# Altium integrated library Capacitor - Aluminium TH.IntLib: 4591 symbols (part 30 of 68)
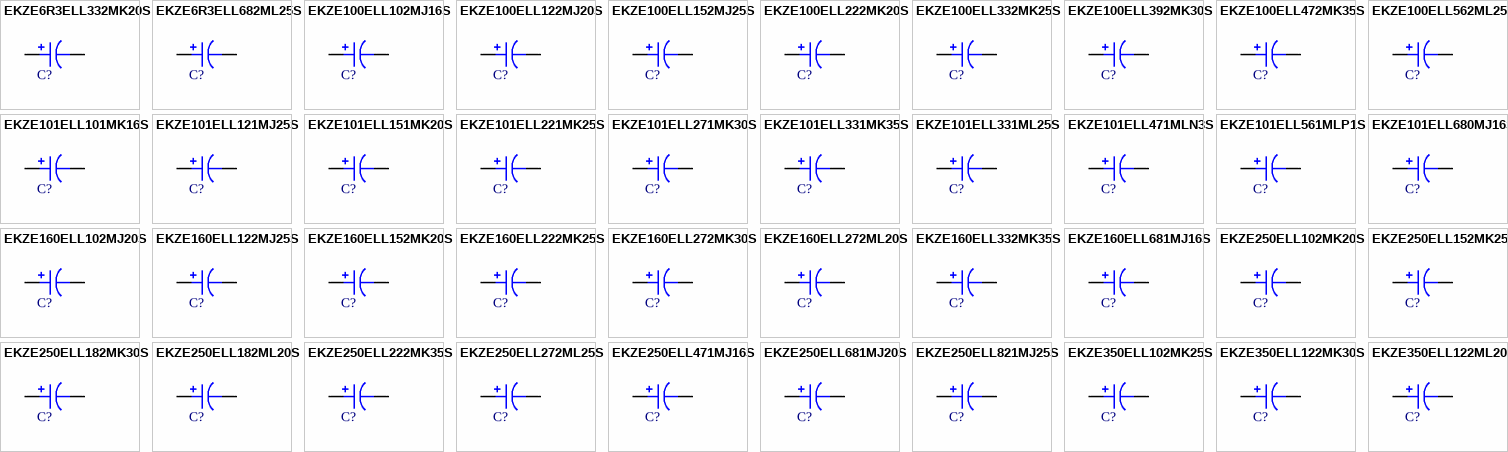
[diagram p143: symbols EKZE6R3ELL332MK20S to EKZE350ELL122ML20S]

## EKZE250ELL272ML25S
designator C?, comment 2700uF  (value not drawn)
CAP ALUM 2700UF 20% 25V RADIAL; Part Number: EKZE250ELL272ML25S; Manufacturer: United Chemi-Con; TemperatureRange: -40C ~ 105C; Type: Polar; Ripple Current: 2.595A @ 120Hz; Impedance: 16 mOhm; Value: 2700uF; PartId: 26657; Supplier 1: Digi-Key; Supplier Part Number 1: 565-1686-ND; ComponentLink1Description: Datasheet; ComponentLink1URL: http://www.chemi-con.co.jp/cgi-bin/CAT_DB/SEARCH/cat_db_al.cgi?e=e&j=p&pdfname=kze; ComponentLink2Description: Digi-Key Listing; ComponentLink2URL: https://www.digikey.com/product-detail/en/united-chemi-con/EKZE250ELL272ML25S/565-1686-ND/756202; Tolerance: 20%; Voltage: 25V; Price: 1.6; Device Package: Radial, Can, 16mm
footprint CAP AL TH D16 L7.5 H26.5
pins: 1, 2

## EKZE250ELL471MJ16S
designator C?, comment 470uF  (value not drawn)
CAP ALUM 470UF 20% 25V RADIAL; Part Number: EKZE250ELL471MJ16S; Manufacturer: United Chemi-Con; TemperatureRange: -40C ~ 105C; Type: Polar; Ripple Current: 715mA @ 120Hz; Impedance: 38 mOhm; Value: 470uF; PartId: 25344; Supplier 1: Digi-Key; Supplier Part Number 1: 565-1677-ND; ComponentLink1Description: Datasheet; ComponentLink1URL: http://www.chemi-con.co.jp/cgi-bin/CAT_DB/SEARCH/cat_db_al.cgi?e=e&j=p&pdfname=kze; ComponentLink2Description: Digi-Key Listing; ComponentLink2URL: https://www.digikey.com/product-detail/en/united-chemi-con/EKZE250ELL471MJ16S/565-1677-ND/756193; Tolerance: 20%; Voltage: 25V; Price: 0.68; Device Package: Radial, Can, 10mm
footprint CAP AL TH D10 L5 H17.5
pins: 1, 2

## EKZE250ELL681MJ20S
designator C?, comment 680uF  (value not drawn)
CAP ALUM 680UF 20% 25V RADIAL; Part Number: EKZE250ELL681MJ20S; Manufacturer: United Chemi-Con; TemperatureRange: -40C ~ 105C; Type: Polar; Ripple Current: 1.092A @ 120Hz; Impedance: 23 mOhm; Value: 680uF; PartId: 25550; Supplier 1: Digi-Key; Supplier Part Number 1: 565-1679-ND; ComponentLink1Description: Datasheet; ComponentLink1URL: http://www.chemi-con.co.jp/cgi-bin/CAT_DB/SEARCH/cat_db_al.cgi?e=e&j=p&pdfname=kze; ComponentLink2Description: Digi-Key Listing; ComponentLink2URL: https://www.digikey.com/product-detail/en/united-chemi-con/EKZE250ELL681MJ20S/565-1679-ND/756195; Tolerance: 20%; Voltage: 25V; Price: 0.63; Device Package: Radial, Can, 10mm
footprint CAP AL TH D10 L5 H22
pins: 1, 2

## EKZE250ELL821MJ25S
designator C?, comment 820uF  (value not drawn)
CAP ALUM 820UF 20% 25V RADIAL; Part Number: EKZE250ELL821MJ25S; Manufacturer: United Chemi-Con; TemperatureRange: -40C ~ 105C; Type: Polar; Ripple Current: 1.29A @ 120Hz; Impedance: 22 mOhm; Value: 820uF; PartId: 26115; Supplier 1: Digi-Key; Supplier Part Number 1: 565-1680-ND; ComponentLink1Description: Datasheet; ComponentLink1URL: http://www.chemi-con.co.jp/cgi-bin/CAT_DB/SEARCH/cat_db_al.cgi?e=e&j=p&pdfname=kze; ComponentLink2Description: Digi-Key Listing; ComponentLink2URL: https://www.digikey.com/product-detail/en/united-chemi-con/EKZE250ELL821MJ25S/565-1680-ND/756196; Tolerance: 20%; Voltage: 25V; Price: 0.77; Device Package: Radial, Can, 10mm
footprint CAP AL TH D10 L5 H30
pins: 1, 2

## EKZE350ELL102MK25S
designator C?, comment 1000uF  (value not drawn)
CAP ALUM 1000UF 20% 35V RADIAL; Part Number: EKZE350ELL102MK25S; Manufacturer: United Chemi-Con; TemperatureRange: -40C ~ 105C; Type: Polar; Ripple Current: 1.662A @ 120Hz; Impedance: 18 mOhm; Value: 1000uF; PartId: 23587; Supplier 1: Digi-Key; Supplier Part Number 1: 565-1697-ND; ComponentLink1Description: Datasheet; ComponentLink1URL: http://www.chemi-con.co.jp/cgi-bin/CAT_DB/SEARCH/cat_db_al.cgi?e=e&j=p&pdfname=kze; ComponentLink2Description: Digi-Key Listing; ComponentLink2URL: https://www.digikey.com/product-detail/en/united-chemi-con/EKZE350ELL102MK25S/565-1697-ND/756213; Tolerance: 20%; Voltage: 35V; Price: 1.01; Device Package: Radial, Can, 12.5mm
footprint CAP AL TH D12.5 L5 H25
pins: 1, 2

## EKZE350ELL122MK30S
designator C?, comment 1200uF  (value not drawn)
CAP ALUM 1200UF 20% 35V RADIAL; Part Number: EKZE350ELL122MK30S; Manufacturer: United Chemi-Con; TemperatureRange: -40C ~ 105C; Type: Polar; Ripple Current: 1.974A @ 120Hz; Impedance: 16 mOhm; Value: 1200uF; PartId: 24285; Supplier 1: Digi-Key; Supplier Part Number 1: 565-1698-ND; ComponentLink1Description: Datasheet; ComponentLink1URL: http://www.chemi-con.co.jp/cgi-bin/CAT_DB/SEARCH/cat_db_al.cgi?e=e&j=p&pdfname=kze; ComponentLink2Description: Digi-Key Listing; ComponentLink2URL: https://www.digikey.com/product-detail/en/united-chemi-con/EKZE350ELL122MK30S/565-1698-ND/756214; Tolerance: 20%; Voltage: 35V; Price: 1.11; Device Package: Radial, Can, 12.5mm
footprint CAP AL TH D12.5 L5 H35.5
pins: 1, 2

## EKZE350ELL122ML20S
designator C?, comment 1200uF  (value not drawn)
CAP ALUM 1200UF 20% 35V RADIAL; Part Number: EKZE350ELL122ML20S; Manufacturer: United Chemi-Con; TemperatureRange: -40C ~ 105C; Type: Polar; Ripple Current: 1.884A @ 120Hz; Impedance: 18 mOhm; Value: 1200uF; PartId: 26328; Supplier 1: Digi-Key; Supplier Part Number 1: 565-1699-ND; ComponentLink1Description: Datasheet; ComponentLink1URL: http://www.chemi-con.co.jp/cgi-bin/CAT_DB/SEARCH/cat_db_al.cgi?e=e&j=p&pdfname=kze; ComponentLink2Description: Digi-Key Listing; ComponentLink2URL: https://www.digikey.com/product-detail/en/united-chemi-con/EKZE350ELL122ML20S/565-1699-ND/756215; Tolerance: 20%; Voltage: 35V; Price: 1.36; Device Package: Radial, Can, 16mm
footprint CAP AL TH D16 L7.5 H20
pins: 1, 2

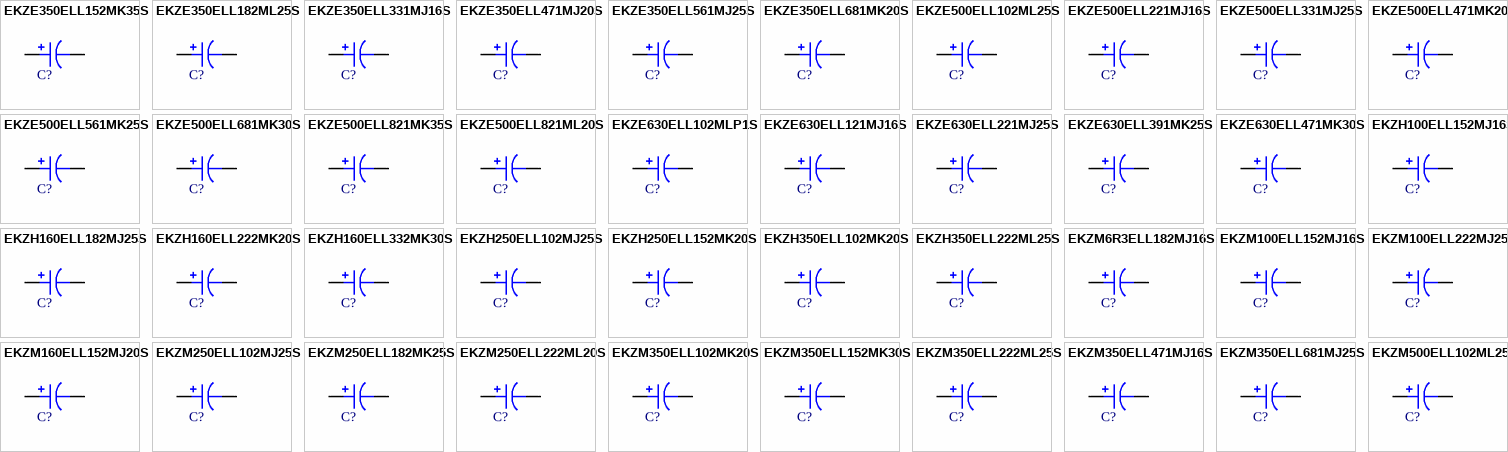
[diagram p48: symbols EKZE350ELL152MK35S to EKZM500ELL102ML25S]

## EKZE350ELL152MK35S
designator C?, comment 1500uF  (value not drawn)
CAP ALUM 1500UF 20% 35V RADIAL; Part Number: EKZE350ELL152MK35S; Manufacturer: United Chemi-Con; TemperatureRange: -40C ~ 105C; Type: Polar; Ripple Current: 2.04A @ 120Hz; Impedance: 15 mOhm; Value: 1500uF; PartId: 24325; Supplier 1: Digi-Key; Supplier Part Number 1: 565-1700-ND; ComponentLink1Description: Datasheet; ComponentLink1URL: http://www.chemi-con.co.jp/cgi-bin/CAT_DB/SEARCH/cat_db_al.cgi?e=e&j=p&pdfname=kze; ComponentLink2Description: Digi-Key Listing; ComponentLink2URL: https://www.digikey.com/product-detail/en/united-chemi-con/EKZE350ELL152MK35S/565-1700-ND/756216; Tolerance: 20%; Voltage: 35V; Price: 1.28; Device Package: Radial, Can, 12.5mm
footprint CAP AL TH D12.5 L5 H35.5
pins: 1, 2

## EKZE350ELL182ML25S
designator C?, comment 1800uF  (value not drawn)
CAP ALUM 1800UF 20% 35V RADIAL; Part Number: EKZE350ELL182ML25S; Manufacturer: United Chemi-Con; TemperatureRange: -40C ~ 105C; Type: Polar; Ripple Current: 2.076A @ 120Hz; Impedance: 16 mOhm; Value: 1800uF; PartId: 26662; Supplier 1: Digi-Key; Supplier Part Number 1: 565-1701-ND; ComponentLink1Description: Datasheet; ComponentLink1URL: http://www.chemi-con.co.jp/cgi-bin/CAT_DB/SEARCH/cat_db_al.cgi?e=e&j=p&pdfname=kze; ComponentLink2Description: Digi-Key Listing; ComponentLink2URL: https://www.digikey.com/product-detail/en/united-chemi-con/EKZE350ELL182ML25S/565-1701-ND/756217; Tolerance: 20%; Voltage: 35V; Price: 1.63; Device Package: Radial, Can, 16mm
footprint CAP AL TH D16 L7.5 H26.5
pins: 1, 2

## EKZE350ELL331MJ16S
designator C?, comment 330uF  (value not drawn)
CAP ALUM 330UF 20% 35V RADIAL; Part Number: EKZE350ELL331MJ16S; Manufacturer: United Chemi-Con; TemperatureRange: -40C ~ 105C; Type: Polar; Ripple Current: 715mA @ 120Hz; Impedance: 38 mOhm; Value: 330uF; PartId: 25355; Supplier 1: Digi-Key; Supplier Part Number 1: 565-1693-ND; ComponentLink1Description: Datasheet; ComponentLink1URL: http://www.chemi-con.co.jp/cgi-bin/CAT_DB/SEARCH/cat_db_al.cgi?e=e&j=p&pdfname=kze; ComponentLink2Description: Digi-Key Listing; ComponentLink2URL: https://www.digikey.com/product-detail/en/united-chemi-con/EKZE350ELL331MJ16S/565-1693-ND/756209; Tolerance: 20%; Voltage: 35V; Price: 0.7; Device Package: Radial, Can, 10mm
footprint CAP AL TH D10 L5 H17.5
pins: 1, 2

## EKZE350ELL471MJ20S
designator C?, comment 470uF  (value not drawn)
CAP ALUM 470UF 20% 35V RADIAL; Part Number: EKZE350ELL471MJ20S; Manufacturer: United Chemi-Con; TemperatureRange: -40C ~ 105C; Type: Polar; Ripple Current: 910mA @ 120Hz; Impedance: 23 mOhm; Value: 470uF; PartId: 25544; Supplier 1: Digi-Key; Supplier Part Number 1: 565-1694-ND; ComponentLink1Description: Datasheet; ComponentLink1URL: http://www.chemi-con.co.jp/cgi-bin/CAT_DB/SEARCH/cat_db_al.cgi?e=e&j=p&pdfname=kze; ComponentLink2Description: Digi-Key Listing; ComponentLink2URL: https://www.digikey.com/product-detail/en/united-chemi-con/EKZE350ELL471MJ20S/565-1694-ND/756210; Tolerance: 20%; Voltage: 35V; Price: 0.63; Device Package: Radial, Can, 10mm
footprint CAP AL TH D10 L5 H22
pins: 1, 2

## EKZE350ELL561MJ25S
designator C?, comment 560uF  (value not drawn)
CAP ALUM 560UF 20% 35V RADIAL; Part Number: EKZE350ELL561MJ25S; Manufacturer: United Chemi-Con; TemperatureRange: -40C ~ 105C; Type: Polar; Ripple Current: 1.075A @ 120Hz; Impedance: 22 mOhm; Value: 560uF; PartId: 26110; Supplier 1: Digi-Key; Supplier Part Number 1: 565-1695-ND; ComponentLink1Description: Datasheet; ComponentLink1URL: http://www.chemi-con.co.jp/cgi-bin/CAT_DB/SEARCH/cat_db_al.cgi?e=e&j=p&pdfname=kze; ComponentLink2Description: Digi-Key Listing; ComponentLink2URL: https://www.digikey.com/product-detail/en/united-chemi-con/EKZE350ELL561MJ25S/565-1695-ND/756211; Tolerance: 20%; Voltage: 35V; Price: 0.77; Device Package: Radial, Can, 10mm
footprint CAP AL TH D10 L5 H30
pins: 1, 2

## EKZE350ELL681MK20S
designator C?, comment 680uF  (value not drawn)
CAP ALUM 680UF 20% 35V RADIAL; Part Number: EKZE350ELL681MK20S; Manufacturer: United Chemi-Con; TemperatureRange: -40C ~ 105C; Type: Polar; Ripple Current: 1.416A @ 120Hz; Impedance: 21 mOhm; Value: 680uF; PartId: 22926; Supplier 1: Digi-Key; Supplier Part Number 1: 565-1696-ND; ComponentLink1Description: Datasheet; ComponentLink1URL: http://www.chemi-con.co.jp/cgi-bin/CAT_DB/SEARCH/cat_db_al.cgi?e=e&j=p&pdfname=kze; ComponentLink2Description: Digi-Key Listing; ComponentLink2URL: https://www.digikey.com/product-detail/en/united-chemi-con/EKZE350ELL681MK20S/565-1696-ND/756212; Tolerance: 20%; Voltage: 35V; Price: 0; Device Package: Radial, Can, 12.5mm
footprint CAP AL TH D12.5 L5 H20
pins: 1, 2

## EKZE500ELL102ML25S
designator C?, comment 1000uF  (value not drawn)
CAP ALUM 1000UF 20% 50V RADIAL; Part Number: EKZE500ELL102ML25S; Manufacturer: United Chemi-Con; TemperatureRange: -40C ~ 105C; Type: Polar; Ripple Current: 1.806A @ 120Hz; Impedance: 21 mOhm; Value: 1000uF; PartId: 26669; Supplier 1: Digi-Key; Supplier Part Number 1: 565-1717-ND; ComponentLink1Description: Datasheet; ComponentLink1URL: http://www.chemi-con.co.jp/cgi-bin/CAT_DB/SEARCH/cat_db_al.cgi?e=e&j=p&pdfname=kze; ComponentLink2Description: Digi-Key Listing; ComponentLink2URL: https://www.digikey.com/product-detail/en/united-chemi-con/EKZE500ELL102ML25S/565-1717-ND/756233; Tolerance: 20%; Voltage: 50V; Price: 1.66; Device Package: Radial, Can, 16mm
footprint CAP AL TH D16 L7.5 H26.5
pins: 1, 2

## EKZE500ELL221MJ16S
designator C?, comment 220uF  (value not drawn)
CAP ALUM 220UF 20% 50V RADIAL; Part Number: EKZE500ELL221MJ16S; Manufacturer: United Chemi-Con; TemperatureRange: -40C ~ 105C; Type: Polar; Ripple Current: 685mA @ 120Hz; Impedance: 42 mOhm; Value: 220uF; PartId: 25361; Supplier 1: Digi-Key; Supplier Part Number 1: 565-1709-ND; ComponentLink1Description: Datasheet; ComponentLink1URL: http://www.chemi-con.co.jp/cgi-bin/CAT_DB/SEARCH/cat_db_al.cgi?e=e&j=p&pdfname=kze; ComponentLink2Description: Digi-Key Listing; ComponentLink2URL: https://www.digikey.com/product-detail/en/united-chemi-con/EKZE500ELL221MJ16S/565-1709-ND/756225; Tolerance: 20%; Voltage: 50V; Price: 0.71; Device Package: Radial, Can, 10mm
footprint CAP AL TH D10 L5 H17.5
pins: 1, 2

## EKZE500ELL331MJ25S
designator C?, comment 330uF  (value not drawn)
CAP ALUM 330UF 20% 50V RADIAL; Part Number: EKZE500ELL331MJ25S; Manufacturer: United Chemi-Con; TemperatureRange: -40C ~ 105C; Type: Polar; Ripple Current: 935mA @ 120Hz; Impedance: 28 mOhm; Value: 330uF; PartId: 26119; Supplier 1: Digi-Key; Supplier Part Number 1: 565-1711-ND; ComponentLink1Description: Datasheet; ComponentLink1URL: http://www.chemi-con.co.jp/cgi-bin/CAT_DB/SEARCH/cat_db_al.cgi?e=e&j=p&pdfname=kze; ComponentLink2Description: Digi-Key Listing; ComponentLink2URL: https://www.digikey.com/product-detail/en/united-chemi-con/EKZE500ELL331MJ25S/565-1711-ND/756227; Tolerance: 20%; Voltage: 50V; Price: 0.78; Device Package: Radial, Can, 10mm
footprint CAP AL TH D10 L5 H30
pins: 1, 2

## EKZE500ELL471MK20S
designator C?, comment 470uF  (value not drawn)
CAP ALUM 470UF 20% 50V RADIAL; Part Number: EKZE500ELL471MK20S; Manufacturer: United Chemi-Con; TemperatureRange: -40C ~ 105C; Type: Polar; Ripple Current: 1.025A @ 120Hz; Impedance: 27 mOhm; Value: 470uF; PartId: 22930; Supplier 1: Digi-Key; Supplier Part Number 1: 565-1712-ND; ComponentLink1Description: Datasheet; ComponentLink1URL: http://www.chemi-con.co.jp/cgi-bin/CAT_DB/SEARCH/cat_db_al.cgi?e=e&j=p&pdfname=kze; ComponentLink2Description: Digi-Key Listing; ComponentLink2URL: https://www.digikey.com/product-detail/en/united-chemi-con/EKZE500ELL471MK20S/565-1712-ND/756228; Tolerance: 20%; Voltage: 50V; Price: 0; Device Package: Radial, Can, 12.5mm
footprint CAP AL TH D12.5 L5 H20
pins: 1, 2

## EKZE500ELL561MK25S
designator C?, comment 560uF  (value not drawn)
CAP ALUM 560UF 20% 50V RADIAL; Part Number: EKZE500ELL561MK25S; Manufacturer: United Chemi-Con; TemperatureRange: -40C ~ 105C; Type: Polar; Ripple Current: 1.205A @ 120Hz; Impedance: 23 mOhm; Value: 560uF; PartId: 23593; Supplier 1: Digi-Key; Supplier Part Number 1: 565-1713-ND; ComponentLink1Description: Datasheet; ComponentLink1URL: http://www.chemi-con.co.jp/cgi-bin/CAT_DB/SEARCH/cat_db_al.cgi?e=e&j=p&pdfname=kze; ComponentLink2Description: Digi-Key Listing; ComponentLink2URL: https://www.digikey.com/product-detail/en/united-chemi-con/EKZE500ELL561MK25S/565-1713-ND/756229; Tolerance: 20%; Voltage: 50V; Price: 1.03; Device Package: Radial, Can, 12.5mm
footprint CAP AL TH D12.5 L5 H25
pins: 1, 2

## EKZE500ELL681MK30S
designator C?, comment 680uF  (value not drawn)
CAP ALUM 680UF 20% 50V RADIAL; Part Number: EKZE500ELL681MK30S; Manufacturer: United Chemi-Con; TemperatureRange: -40C ~ 105C; Type: Polar; Ripple Current: 1.716A @ 120Hz; Impedance: 21 mOhm; Value: 680uF; PartId: 24294; Supplier 1: Digi-Key; Supplier Part Number 1: 565-1714-ND; ComponentLink1Description: Datasheet; ComponentLink1URL: http://www.chemi-con.co.jp/cgi-bin/CAT_DB/SEARCH/cat_db_al.cgi?e=e&j=p&pdfname=kze; ComponentLink2Description: Digi-Key Listing; ComponentLink2URL: https://www.digikey.com/product-detail/en/united-chemi-con/EKZE500ELL681MK30S/565-1714-ND/756230; Tolerance: 20%; Voltage: 50V; Price: 1.14; Device Package: Radial, Can, 12.5mm
footprint CAP AL TH D12.5 L5 H35.5
pins: 1, 2

## EKZE500ELL821MK35S
designator C?, comment 820uF  (value not drawn)
CAP ALUM 820UF 20% 50V RADIAL; Part Number: EKZE500ELL821MK35S; Manufacturer: United Chemi-Con; TemperatureRange: -40C ~ 105C; Type: Polar; Ripple Current: 1.776A @ 120Hz; Impedance: 19 mOhm; Value: 820uF; PartId: 24326; Supplier 1: Digi-Key; Supplier Part Number 1: 565-1715-ND; ComponentLink1Description: Datasheet; ComponentLink1URL: http://www.chemi-con.co.jp/cgi-bin/CAT_DB/SEARCH/cat_db_al.cgi?e=e&j=p&pdfname=kze; ComponentLink2Description: Digi-Key Listing; ComponentLink2URL: https://www.digikey.com/product-detail/en/united-chemi-con/EKZE500ELL821MK35S/565-1715-ND/756231; Tolerance: 20%; Voltage: 50V; Price: 1.28; Device Package: Radial, Can, 12.5mm
footprint CAP AL TH D12.5 L5 H35.5
pins: 1, 2

## EKZE500ELL821ML20S
designator C?, comment 820uF  (value not drawn)
CAP ALUM 820UF 20% 50V RADIAL; Part Number: EKZE500ELL821ML20S; Manufacturer: United Chemi-Con; TemperatureRange: -40C ~ 105C; Type: Polar; Ripple Current: 1.638A @ 120Hz; Impedance: 23 mOhm; Value: 820uF; PartId: 26335; Supplier 1: Digi-Key; Supplier Part Number 1: 565-1716-ND; ComponentLink1Description: Datasheet; ComponentLink1URL: http://www.chemi-con.co.jp/cgi-bin/CAT_DB/SEARCH/cat_db_al.cgi?e=e&j=p&pdfname=kze; ComponentLink2Description: Digi-Key Listing; ComponentLink2URL: https://www.digikey.com/product-detail/en/united-chemi-con/EKZE500ELL821ML20S/565-1716-ND/756232; Tolerance: 20%; Voltage: 50V; Price: 1.47; Device Package: Radial, Can, 16mm
footprint CAP AL TH D16 L7.5 H20
pins: 1, 2

## EKZE630ELL102MLP1S
designator C?, comment 1000uF  (value not drawn)
CAP ALUM 1000UF 20% 63V RADIAL; Part Number: EKZE630ELL102MLP1S; Manufacturer: United Chemi-Con; TemperatureRange: -40C ~ 105C; Type: Polar; Ripple Current: 1.74A @ 120Hz; Impedance: 19 mOhm; Value: 1000uF; PartId: 27394; Supplier 1: Digi-Key; Supplier Part Number 1: 565-1729-ND; ComponentLink1Description: Datasheet; ComponentLink1URL: http://www.chemi-con.co.jp/cgi-bin/CAT_DB/SEARCH/cat_db_al.cgi?e=e&j=p&pdfname=kze; ComponentLink2Description: Digi-Key Listing; ComponentLink2URL: https://www.digikey.com/product-detail/en/united-chemi-con/EKZE630ELL102MLP1S/565-1729-ND/756245; Tolerance: 20%; Voltage: 63V; Price: 1.98; Device Package: Radial, Can, 16mm
footprint CAP AL TH D16 L7.5 H37
pins: 1, 2

## EKZE630ELL121MJ16S
designator C?, comment 120uF  (value not drawn)
CAP ALUM 120UF 20% 63V RADIAL; Part Number: EKZE630ELL121MJ16S; Manufacturer: United Chemi-Con; TemperatureRange: -40C ~ 105C; Type: Polar; Ripple Current: 380mA @ 120Hz; Impedance: 76 mOhm; Value: 120uF; PartId: 25358; Supplier 1: Digi-Key; Supplier Part Number 1: 565-1723-ND; ComponentLink1Description: Datasheet; ComponentLink1URL: http://www.chemi-con.co.jp/cgi-bin/CAT_DB/SEARCH/cat_db_al.cgi?e=e&j=p&pdfname=kze; ComponentLink2Description: Digi-Key Listing; ComponentLink2URL: https://www.digikey.com/product-detail/en/united-chemi-con/EKZE630ELL121MJ16S/565-1723-ND/756239; Tolerance: 20%; Voltage: 63V; Price: 0.7; Device Package: Radial, Can, 10mm
footprint CAP AL TH D10 L5 H17.5
pins: 1, 2

## EKZE630ELL221MJ25S
designator C?, comment 220uF  (value not drawn)
CAP ALUM 220UF 20% 63V RADIAL; Part Number: EKZE630ELL221MJ25S; Manufacturer: United Chemi-Con; TemperatureRange: -40C ~ 105C; Type: Polar; Ripple Current: 675mA @ 120Hz; Impedance: 46 mOhm; Value: 220uF; PartId: 26132; Supplier 1: Digi-Key; Supplier Part Number 1: 565-1725-ND; ComponentLink1Description: Datasheet; ComponentLink1URL: http://www.chemi-con.co.jp/cgi-bin/CAT_DB/SEARCH/cat_db_al.cgi?e=e&j=p&pdfname=kze; ComponentLink2Description: Digi-Key Listing; ComponentLink2URL: https://www.digikey.com/product-detail/en/united-chemi-con/EKZE630ELL221MJ25S/565-1725-ND/756241; Tolerance: 20%; Voltage: 63V; Price: 0.81; Device Package: Radial, Can, 10mm
footprint CAP AL TH D10 L5 H30
pins: 1, 2

## EKZE630ELL391MK25S
designator C?, comment 390uF  (value not drawn)
CAP ALUM 390UF 20% 63V RADIAL; Part Number: EKZE630ELL391MK25S; Manufacturer: United Chemi-Con; TemperatureRange: -40C ~ 105C; Type: Polar; Ripple Current: 950mA @ 120Hz; Impedance: 31 mOhm; Value: 390uF; PartId: 23586; Supplier 1: Digi-Key; Supplier Part Number 1: 565-1726-ND; ComponentLink1Description: Datasheet; ComponentLink1URL: http://www.chemi-con.co.jp/cgi-bin/CAT_DB/SEARCH/cat_db_al.cgi?e=e&j=p&pdfname=kze; ComponentLink2Description: Digi-Key Listing; ComponentLink2URL: https://www.digikey.com/product-detail/en/united-chemi-con/EKZE630ELL391MK25S/565-1726-ND/756242; Tolerance: 20%; Voltage: 63V; Price: 1.01; Device Package: Radial, Can, 12.5mm
footprint CAP AL TH D12.5 L5 H25
pins: 1, 2

## EKZE630ELL471MK30S
designator C?, comment 470uF  (value not drawn)
CAP ALUM 470UF 20% 63V RADIAL; Part Number: EKZE630ELL471MK30S; Manufacturer: United Chemi-Con; TemperatureRange: -40C ~ 105C; Type: Polar; Ripple Current: 1.15A @ 120Hz; Impedance: 28 mOhm; Value: 470uF; PartId: 24292; Supplier 1: Digi-Key; Supplier Part Number 1: 565-1727-ND; ComponentLink1Description: Datasheet; ComponentLink1URL: http://www.chemi-con.co.jp/cgi-bin/CAT_DB/SEARCH/cat_db_al.cgi?e=e&j=p&pdfname=kze; ComponentLink2Description: Digi-Key Listing; ComponentLink2URL: https://www.digikey.com/product-detail/en/united-chemi-con/EKZE630ELL471MK30S/565-1727-ND/756243; Tolerance: 20%; Voltage: 63V; Price: 1.13; Device Package: Radial, Can, 12.5mm
footprint CAP AL TH D12.5 L5 H35.5
pins: 1, 2

## EKZH100ELL152MJ16S
designator C?, comment 1500uF  (value not drawn)
CAP ALUM 1500UF 20% 10V RADIAL; Part Number: EKZH100ELL152MJ16S; Manufacturer: United Chemi-Con; TemperatureRange: -40C ~ 105C; Type: Polar; Ripple Current: 990mA @ 120Hz; Impedance: 32 mOhm; Value: 1500uF; PartId: 25357; Supplier 1: Digi-Key; Supplier Part Number 1: 565-3546-ND; ComponentLink1Description: Datasheet; ComponentLink1URL: http://www.chemi-con.co.jp/cgi-bin/CAT_DB/SEARCH/cat_db_al.cgi?e=e&j=p&pdfname=kzh; ComponentLink2Description: Digi-Key Listing; ComponentLink2URL: https://www.digikey.com/product-detail/en/united-chemi-con/EKZH100ELL152MJ16S/565-3546-ND/3529140; Tolerance: 20%; Voltage: 10V; Price: 0.7; Device Package: Radial, Can, 10mm
footprint CAP AL TH D10 L5 H17.5
pins: 1, 2

## EKZH160ELL182MJ25S
designator C?, comment 1800uF  (value not drawn)
CAP ALUM 1800UF 20% 16V RADIAL; Part Number: EKZH160ELL182MJ25S; Manufacturer: United Chemi-Con; TemperatureRange: -40C ~ 105C; Type: Polar; Ripple Current: 1.35A @ 120Hz; Impedance: 18 mOhm; Value: 1800uF; PartId: 26166; Supplier 1: Digi-Key; Supplier Part Number 1: 565-3550-ND; ComponentLink1Description: Datasheet; ComponentLink1URL: http://www.chemi-con.co.jp/cgi-bin/CAT_DB/SEARCH/cat_db_al.cgi?e=e&j=p&pdfname=kzh; ComponentLink2Description: Digi-Key Listing; ComponentLink2URL: https://www.digikey.com/product-detail/en/united-chemi-con/EKZH160ELL182MJ25S/565-3550-ND/3529145; Tolerance: 20%; Voltage: 16V; Price: 0.88; Device Package: Radial, Can, 10mm
footprint CAP AL TH D10 L5 H30
pins: 1, 2

## EKZH160ELL222MK20S
designator C?, comment 2200uF  (value not drawn)
CAP ALUM 2200UF 20% 16V RADIAL; Part Number: EKZH160ELL222MK20S; Manufacturer: United Chemi-Con; TemperatureRange: -40C ~ 105C; Type: Polar; Ripple Current: 1.86A @ 120Hz; Impedance: 17 mOhm; Value: 2200uF; PartId: 23028; Supplier 1: Digi-Key; Supplier Part Number 1: 565-3551-ND; ComponentLink1Description: Datasheet; ComponentLink1URL: http://www.chemi-con.co.jp/cgi-bin/CAT_DB/SEARCH/cat_db_al.cgi?e=e&j=p&pdfname=kzh; ComponentLink2Description: Digi-Key Listing; ComponentLink2URL: https://www.digikey.com/product-detail/en/united-chemi-con/EKZH160ELL222MK20S/565-3551-ND/3529149; Tolerance: 20%; Voltage: 16V; Price: 0; Device Package: Radial, Can, 12.5mm
footprint CAP AL TH D12.5 L5 H21.5
pins: 1, 2

## EKZH160ELL332MK30S
designator C?, comment 3300uF  (value not drawn)
CAP ALUM 3300UF 20% 16V RADIAL; Part Number: EKZH160ELL332MK30S; Manufacturer: United Chemi-Con; TemperatureRange: -40C ~ 105C; Type: Polar; Ripple Current: 2.5875A @ 120Hz; Impedance: 13 mOhm; Value: 3300uF; PartId: 24341; Supplier 1: Digi-Key; Supplier Part Number 1: 565-3553-ND; ComponentLink1Description: Datasheet; ComponentLink1URL: http://www.chemi-con.co.jp/cgi-bin/CAT_DB/SEARCH/cat_db_al.cgi?e=e&j=p&pdfname=kzh; ComponentLink2Description: Digi-Key Listing; ComponentLink2URL: https://www.digikey.com/product-detail/en/united-chemi-con/EKZH160ELL332MK30S/565-3553-ND/3529151; Tolerance: 20%; Voltage: 16V; Price: 1.33; Device Package: Radial, Can, 12.5mm
footprint CAP AL TH D12.5 L5 H35.5
pins: 1, 2

## EKZH250ELL102MJ25S
designator C?, comment 1000uF  (value not drawn)
CAP ALUM 1000UF 20% 25V RADIAL; Part Number: EKZH250ELL102MJ25S; Manufacturer: United Chemi-Con; TemperatureRange: -40C ~ 105C; Type: Polar; Ripple Current: 1.35A @ 120Hz; Impedance: 18 mOhm; Value: 1000uF; PartId: 26161; Supplier 1: Digi-Key; Supplier Part Number 1: 565-3554-ND; ComponentLink1Description: Datasheet; ComponentLink1URL: http://www.chemi-con.co.jp/cgi-bin/CAT_DB/SEARCH/cat_db_al.cgi?e=e&j=p&pdfname=kzh; ComponentLink2Description: Digi-Key Listing; ComponentLink2URL: https://www.digikey.com/product-detail/en/united-chemi-con/EKZH250ELL102MJ25S/565-3554-ND/3529155; Tolerance: 20%; Voltage: 25V; Price: 0.87; Device Package: Radial, Can, 10mm
footprint CAP AL TH D10 L5 H30
pins: 1, 2

## EKZH250ELL152MK20S
designator C?, comment 1500uF  (value not drawn)
CAP ALUM 1500UF 20% 25V RADIAL; Part Number: EKZH250ELL152MK20S; Manufacturer: United Chemi-Con; TemperatureRange: -40C ~ 105C; Type: Polar; Ripple Current: 1.488A @ 120Hz; Impedance: 17 mOhm; Value: 1500uF; PartId: 23029; Supplier 1: Digi-Key; Supplier Part Number 1: 565-3555-ND; ComponentLink1Description: Datasheet; ComponentLink1URL: http://www.chemi-con.co.jp/cgi-bin/CAT_DB/SEARCH/cat_db_al.cgi?e=e&j=p&pdfname=kzh; ComponentLink2Description: Digi-Key Listing; ComponentLink2URL: https://www.digikey.com/product-detail/en/united-chemi-con/EKZH250ELL152MK20S/565-3555-ND/3529157; Tolerance: 20%; Voltage: 25V; Price: 0; Device Package: Radial, Can, 12.5mm
footprint CAP AL TH D12.5 L5 H21.5
pins: 1, 2

## EKZH350ELL102MK20S
designator C?, comment 1000uF  (value not drawn)
CAP ALUM 1000UF 20% 35V RADIAL; Part Number: EKZH350ELL102MK20S; Manufacturer: United Chemi-Con; TemperatureRange: -40C ~ 105C; Type: Polar; Ripple Current: 1.488A @ 120Hz; Impedance: 17 mOhm; Value: 1000uF; PartId: 23030; Supplier 1: Digi-Key; Supplier Part Number 1: 565-3558-ND; ComponentLink1Description: Datasheet; ComponentLink1URL: http://www.chemi-con.co.jp/cgi-bin/CAT_DB/SEARCH/cat_db_al.cgi?e=e&j=p&pdfname=kzh; ComponentLink2Description: Digi-Key Listing; ComponentLink2URL: https://www.digikey.com/product-detail/en/united-chemi-con/EKZH350ELL102MK20S/565-3558-ND/3529165; Tolerance: 20%; Voltage: 35V; Price: 0; Device Package: Radial, Can, 12.5mm
footprint CAP AL TH D12.5 L5 H21.5
pins: 1, 2

## EKZH350ELL222ML25S
designator C?, comment 2200uF  (value not drawn)
CAP ALUM 2200UF 20% 35V RADIAL; Part Number: EKZH350ELL222ML25S; Manufacturer: United Chemi-Con; TemperatureRange: -40C ~ 105C; Type: Polar; Ripple Current: 2.7225A @ 120Hz; Impedance: 13 mOhm; Value: 2200uF; PartId: 26688; Supplier 1: Digi-Key; Supplier Part Number 1: 565-3560-ND; ComponentLink1Description: Datasheet; ComponentLink1URL: http://www.chemi-con.co.jp/cgi-bin/CAT_DB/SEARCH/cat_db_al.cgi?e=e&j=p&pdfname=kzh; ComponentLink2Description: Digi-Key Listing; ComponentLink2URL: https://www.digikey.com/product-detail/en/united-chemi-con/EKZH350ELL222ML25S/565-3560-ND/3529168; Tolerance: 20%; Voltage: 35V; Price: 1.82; Device Package: Radial, Can, 16mm
footprint CAP AL TH D16 L7.5 H26.5
pins: 1, 2

## EKZM6R3ELL182MJ16S
designator C?, comment 1800uF  (value not drawn)
CAP ALUM 1800UF 20% 6.3V RADIAL; Part Number: EKZM6R3ELL182MJ16S; Manufacturer: United Chemi-Con; TemperatureRange: -40C ~ 105C; Type: Polar; Ripple Current: 1.056A @ 120Hz; Impedance: 28 mOhm; Value: 1800uF; PartId: 25381; Supplier 1: Digi-Key; Supplier Part Number 1: 565-3562-ND; ComponentLink1Description: Datasheet; ComponentLink1URL: http://www.chemi-con.co.jp/cgi-bin/CAT_DB/SEARCH/cat_db_al.cgi?e=e&j=p&pdfname=kzm; ComponentLink2Description: Digi-Key Listing; ComponentLink2URL: https://www.digikey.com/product-detail/en/united-chemi-con/EKZM6R3ELL182MJ16S/565-3562-ND/3529211; Tolerance: 20%; Voltage: 6.3V; Price: 0.74; Device Package: Radial, Can, 10mm
footprint CAP AL TH D10 L5 H17.5
pins: 1, 2

## EKZM100ELL152MJ16S
designator C?, comment 1500uF  (value not drawn)
CAP ALUM 1500UF 20% 10V RADIAL; Part Number: EKZM100ELL152MJ16S; Manufacturer: United Chemi-Con; TemperatureRange: -40C ~ 105C; Type: Polar; Ripple Current: 1.056A @ 120Hz; Impedance: 28 mOhm; Value: 1500uF; PartId: 25385; Supplier 1: Digi-Key; Supplier Part Number 1: 565-3563-ND; ComponentLink1Description: Datasheet; ComponentLink1URL: http://www.chemi-con.co.jp/cgi-bin/CAT_DB/SEARCH/cat_db_al.cgi?e=e&j=p&pdfname=kzm; ComponentLink2Description: Digi-Key Listing; ComponentLink2URL: https://www.digikey.com/product-detail/en/united-chemi-con/EKZM100ELL152MJ16S/565-3563-ND/3529177; Tolerance: 20%; Voltage: 10V; Price: 0.75; Device Package: Radial, Can, 10mm
footprint CAP AL TH D10 L5 H17.5
pins: 1, 2

## EKZM100ELL222MJ25S
designator C?, comment 2200uF  (value not drawn)
CAP ALUM 2200UF 20% 10V RADIAL; Part Number: EKZM100ELL222MJ25S; Manufacturer: United Chemi-Con; TemperatureRange: -40C ~ 105C; Type: Polar; Ripple Current: 1.6875A @ 120Hz; Impedance: 18 mOhm; Value: 2200uF; PartId: 26175; Supplier 1: Digi-Key; Supplier Part Number 1: 565-3564-ND; ComponentLink1Description: Datasheet; ComponentLink1URL: http://www.chemi-con.co.jp/cgi-bin/CAT_DB/SEARCH/cat_db_al.cgi?e=e&j=p&pdfname=kzm; ComponentLink2Description: Digi-Key Listing; ComponentLink2URL: https://www.digikey.com/product-detail/en/united-chemi-con/EKZM100ELL222MJ25S/565-3564-ND/3529178; Tolerance: 20%; Voltage: 10V; Price: 0.97; Device Package: Radial, Can, 10mm
footprint CAP AL TH D10 L5 H30
pins: 1, 2

## EKZM160ELL152MJ20S
designator C?, comment 1500uF  (value not drawn)
CAP ALUM 1500UF 20% 16V RADIAL; Part Number: EKZM160ELL152MJ20S; Manufacturer: United Chemi-Con; TemperatureRange: -40C ~ 105C; Type: Polar; Ripple Current: 1.176A @ 120Hz; Impedance: 20 mOhm; Value: 1500uF; PartId: 25696; Supplier 1: Digi-Key; Supplier Part Number 1: 565-3569-ND; ComponentLink1Description: Datasheet; ComponentLink1URL: http://www.chemi-con.co.jp/cgi-bin/CAT_DB/SEARCH/cat_db_al.cgi?e=e&j=p&pdfname=kzm; ComponentLink2Description: Digi-Key Listing; ComponentLink2URL: https://www.digikey.com/product-detail/en/united-chemi-con/EKZM160ELL152MJ20S/565-3569-ND/3529186; Tolerance: 20%; Voltage: 16V; Price: 0.83; Device Package: Radial, Can, 10mm
footprint CAP AL TH D10 L5 H22
pins: 1, 2

## EKZM250ELL102MJ25S
designator C?, comment 1000uF  (value not drawn)
CAP ALUM 1000UF 20% 25V RADIAL; Part Number: EKZM250ELL102MJ25S; Manufacturer: United Chemi-Con; TemperatureRange: -40C ~ 105C; Type: Polar; Ripple Current: 1.35A @ 120Hz; Impedance: 18 mOhm; Value: 1000uF; PartId: 26181; Supplier 1: Digi-Key; Supplier Part Number 1: 565-3571-ND; ComponentLink1Description: Datasheet; ComponentLink1URL: http://www.chemi-con.co.jp/cgi-bin/CAT_DB/SEARCH/cat_db_al.cgi?e=e&j=p&pdfname=kzm; ComponentLink2Description: Digi-Key Listing; ComponentLink2URL: https://www.digikey.com/product-detail/en/united-chemi-con/EKZM250ELL102MJ25S/565-3571-ND/3529190; Tolerance: 20%; Voltage: 25V; Price: 1; Device Package: Radial, Can, 10mm
footprint CAP AL TH D10 L5 H30
pins: 1, 2

## EKZM250ELL182MK25S
designator C?, comment 1800uF  (value not drawn)
CAP ALUM 1800UF 20% 25V RADIAL; Part Number: EKZM250ELL182MK25S; Manufacturer: United Chemi-Con; TemperatureRange: -40C ~ 105C; Type: Polar; Ripple Current: 1.74A @ 120Hz; Impedance: 15 mOhm; Value: 1800uF; PartId: 23727; Supplier 1: Digi-Key; Supplier Part Number 1: 565-3572-ND; ComponentLink1Description: Datasheet; ComponentLink1URL: http://www.chemi-con.co.jp/cgi-bin/CAT_DB/SEARCH/cat_db_al.cgi?e=e&j=p&pdfname=kzm; ComponentLink2Description: Digi-Key Listing; ComponentLink2URL: https://www.digikey.com/product-detail/en/united-chemi-con/EKZM250ELL182MK25S/565-3572-ND/3529191; Tolerance: 20%; Voltage: 25V; Price: 1.34; Device Package: Radial, Can, 12.5mm
footprint CAP AL TH D12.5 L5 H26.5
pins: 1, 2

## EKZM250ELL222ML20S
designator C?, comment 2200uF  (value not drawn)
CAP ALUM 2200UF 20% 25V RADIAL; Part Number: EKZM250ELL222ML20S; Manufacturer: United Chemi-Con; TemperatureRange: -40C ~ 105C; Type: Polar; Ripple Current: 2.4375A @ 120Hz; Impedance: 15 mOhm; Value: 2200uF; PartId: 26484; Supplier 1: Digi-Key; Supplier Part Number 1: 565-3573-ND; ComponentLink1Description: Datasheet; ComponentLink1URL: http://www.chemi-con.co.jp/cgi-bin/CAT_DB/SEARCH/cat_db_al.cgi?e=e&j=p&pdfname=kzm; ComponentLink2Description: Digi-Key Listing; ComponentLink2URL: https://www.digikey.com/product-detail/en/united-chemi-con/EKZM250ELL222ML20S/565-3573-ND/3529192; Tolerance: 20%; Voltage: 25V; Price: 1.82; Device Package: Radial, Can, 16mm
footprint CAP AL TH D16 L7.5 H22
pins: 1, 2

## EKZM350ELL102MK20S
designator C?, comment 1000uF  (value not drawn)
CAP ALUM 1000UF 20% 35V RADIAL; Part Number: EKZM350ELL102MK20S; Manufacturer: United Chemi-Con; TemperatureRange: -40C ~ 105C; Type: Polar; Ripple Current: 1.488A @ 120Hz; Impedance: 17 mOhm; Value: 1000uF; PartId: 23039; Supplier 1: Digi-Key; Supplier Part Number 1: 565-3578-ND; ComponentLink1Description: Datasheet; ComponentLink1URL: http://www.chemi-con.co.jp/cgi-bin/CAT_DB/SEARCH/cat_db_al.cgi?e=e&j=p&pdfname=kzm; ComponentLink2Description: Digi-Key Listing; ComponentLink2URL: https://www.digikey.com/product-detail/en/united-chemi-con/EKZM350ELL102MK20S/565-3578-ND/3529199; Tolerance: 20%; Voltage: 35V; Price: 0; Device Package: Radial, Can, 12.5mm
footprint CAP AL TH D12.5 L5 H21.5
pins: 1, 2

## EKZM350ELL152MK30S
designator C?, comment 1500uF  (value not drawn)
CAP ALUM 1500UF 20% 35V RADIAL; Part Number: EKZM350ELL152MK30S; Manufacturer: United Chemi-Con; TemperatureRange: -40C ~ 105C; Type: Polar; Ripple Current: 2.07A @ 120Hz; Impedance: 13 mOhm; Value: 1500uF; PartId: 24357; Supplier 1: Digi-Key; Supplier Part Number 1: 565-3579-ND; ComponentLink1Description: Datasheet; ComponentLink1URL: http://www.chemi-con.co.jp/cgi-bin/CAT_DB/SEARCH/cat_db_al.cgi?e=e&j=p&pdfname=kzm; ComponentLink2Description: Digi-Key Listing; ComponentLink2URL: https://www.digikey.com/product-detail/en/united-chemi-con/EKZM350ELL152MK30S/565-3579-ND/3529200; Tolerance: 20%; Voltage: 35V; Price: 1.5; Device Package: Radial, Can, 12.5mm
footprint CAP AL TH D12.5 L5 H35.5
pins: 1, 2

## EKZM350ELL222ML25S
designator C?, comment 2200uF  (value not drawn)
CAP ALUM 2200UF 20% 35V RADIAL; Part Number: EKZM350ELL222ML25S; Manufacturer: United Chemi-Con; TemperatureRange: -40C ~ 105C; Type: Polar; Ripple Current: 2.7225A @ 120Hz; Impedance: 13 mOhm; Value: 2200uF; PartId: 26697; Supplier 1: Digi-Key; Supplier Part Number 1: 565-3580-ND; ComponentLink1Description: Datasheet; ComponentLink1URL: http://www.chemi-con.co.jp/cgi-bin/CAT_DB/SEARCH/cat_db_al.cgi?e=e&j=p&pdfname=kzm; ComponentLink2Description: Digi-Key Listing; ComponentLink2URL: https://www.digikey.com/product-detail/en/united-chemi-con/EKZM350ELL222ML25S/565-3580-ND/3529201; Tolerance: 20%; Voltage: 35V; Price: 1.92; Device Package: Radial, Can, 16mm
footprint CAP AL TH D16 L7.5 H26.5
pins: 1, 2

## EKZM350ELL471MJ16S
designator C?, comment 470uF  (value not drawn)
CAP ALUM 470UF 20% 35V RADIAL; Part Number: EKZM350ELL471MJ16S; Manufacturer: United Chemi-Con; TemperatureRange: -40C ~ 105C; Type: Polar; Ripple Current: 880mA @ 120Hz; Impedance: 28 mOhm; Value: 470uF; PartId: 25386; Supplier 1: Digi-Key; Supplier Part Number 1: 565-3576-ND; ComponentLink1Description: Datasheet; ComponentLink1URL: http://www.chemi-con.co.jp/cgi-bin/CAT_DB/SEARCH/cat_db_al.cgi?e=e&j=p&pdfname=kzm; ComponentLink2Description: Digi-Key Listing; ComponentLink2URL: https://www.digikey.com/product-detail/en/united-chemi-con/EKZM350ELL471MJ16S/565-3576-ND/3529204; Tolerance: 20%; Voltage: 35V; Price: 0.76; Device Package: Radial, Can, 10mm
footprint CAP AL TH D10 L5 H17.5
pins: 1, 2

## EKZM350ELL681MJ25S
designator C?, comment 680uF  (value not drawn)
CAP ALUM 680UF 20% 35V RADIAL; Part Number: EKZM350ELL681MJ25S; Manufacturer: United Chemi-Con; TemperatureRange: -40C ~ 105C; Type: Polar; Ripple Current: 1.35A @ 120Hz; Impedance: 18 mOhm; Value: 680uF; PartId: 26180; Supplier 1: Digi-Key; Supplier Part Number 1: 565-3577-ND; ComponentLink1Description: Datasheet; ComponentLink1URL: http://www.chemi-con.co.jp/cgi-bin/CAT_DB/SEARCH/cat_db_al.cgi?e=e&j=p&pdfname=kzm; ComponentLink2Description: Digi-Key Listing; ComponentLink2URL: https://www.digikey.com/product-detail/en/united-chemi-con/EKZM350ELL681MJ25S/565-3577-ND/3529205; Tolerance: 20%; Voltage: 35V; Price: 1; Device Package: Radial, Can, 10mm
footprint CAP AL TH D10 L5 H30
pins: 1, 2

## EKZM500ELL102ML25S
designator C?, comment 1000uF  (value not drawn)
CAP ALUM 1000UF 20% 50V RADIAL; Part Number: EKZM500ELL102ML25S; Manufacturer: United Chemi-Con; TemperatureRange: -40C ~ 105C; Type: Polar; Ripple Current: 1.806A @ 120Hz; Impedance: 21 mOhm; Value: 1000uF; PartId: 26677; Supplier 1: Digi-Key; Supplier Part Number 1: 565-3583-ND; ComponentLink1Description: Datasheet; ComponentLink1URL: http://www.chemi-con.co.jp/cgi-bin/CAT_DB/SEARCH/cat_db_al.cgi?e=e&j=p&pdfname=kzm; ComponentLink2Description: Digi-Key Listing; ComponentLink2URL: https://www.digikey.com/product-detail/en/united-chemi-con/EKZM500ELL102ML25S/565-3583-ND/3529207; Tolerance: 20%; Voltage: 50V; Price: 1.79; Device Package: Radial, Can, 16mm
footprint CAP AL TH D16 L7.5 H26.5
pins: 1, 2

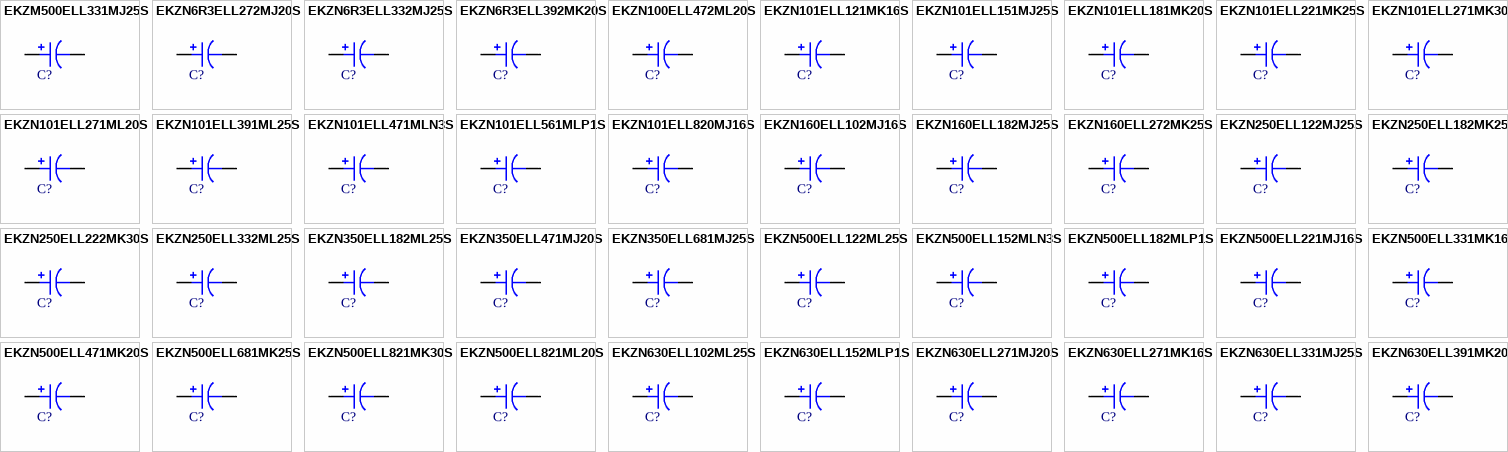
[diagram p49: symbols EKZM500ELL331MJ25S to EKZN630ELL391MK20S]

## EKZM500ELL331MJ25S
designator C?, comment 330uF  (value not drawn)
CAP ALUM 330UF 20% 50V RADIAL; Part Number: EKZM500ELL331MJ25S; Manufacturer: United Chemi-Con; TemperatureRange: -40C ~ 105C; Type: Polar; Ripple Current: 935mA @ 120Hz; Impedance: 28 mOhm; Value: 330uF; PartId: 26168; Supplier 1: Digi-Key; Supplier Part Number 1: 565-3582-ND; ComponentLink1Description: Datasheet; ComponentLink1URL: http://www.chemi-con.co.jp/cgi-bin/CAT_DB/SEARCH/cat_db_al.cgi?e=e&j=p&pdfname=kzm; ComponentLink2Description: Digi-Key Listing; ComponentLink2URL: https://www.digikey.com/product-detail/en/united-chemi-con/EKZM500ELL331MJ25S/565-3582-ND/3529210; Tolerance: 20%; Voltage: 50V; Price: 0.9; Device Package: Radial, Can, 10mm
footprint CAP AL TH D10 L5 H30
pins: 1, 2

## EKZN6R3ELL272MJ20S
designator C?, comment 2700uF  (value not drawn)
CAP ALUM 2700UF 20% 6.3V RADIAL; Part Number: EKZN6R3ELL272MJ20S; Manufacturer: United Chemi-Con; TemperatureRange: -40C ~ 105C; Type: Polar; Ripple Current: 1.47A @ 120Hz; Impedance: 28 mOhm; Value: 2700uF; PartId: 25649; Supplier 1: Digi-Key; Supplier Part Number 1: 565-4035-ND; ComponentLink1Description: Datasheet; ComponentLink1URL: http://www.chemi-con.co.jp/cgi-bin/CAT_DB/SEARCH/cat_db_al.cgi?e=e&j=p&pdfname=kzn; ComponentLink2Description: Digi-Key Listing; ComponentLink2URL: https://www.digikey.com/product-detail/en/united-chemi-con/EKZN6R3ELL272MJ20S/565-4035-ND/4843845; Tolerance: 20%; Voltage: 6.3V; Price: 0.74; Device Package: Radial, Can, 10mm
footprint CAP AL TH D10 L5 H22
pins: 1, 2

## EKZN6R3ELL332MJ25S
designator C?, comment 3300uF  (value not drawn)
CAP ALUM 3300UF 20% 6.3V RADIAL; Part Number: EKZN6R3ELL332MJ25S; Manufacturer: United Chemi-Con; TemperatureRange: -40C ~ 105C; Type: Polar; Ripple Current: 1.6875A @ 120Hz; Impedance: 26 mOhm; Value: 3300uF; PartId: 26148; Supplier 1: Digi-Key; Supplier Part Number 1: 565-4036-ND; ComponentLink1Description: Datasheet; ComponentLink1URL: http://www.chemi-con.co.jp/cgi-bin/CAT_DB/SEARCH/cat_db_al.cgi?e=e&j=p&pdfname=kzn; ComponentLink2Description: Digi-Key Listing; ComponentLink2URL: https://www.digikey.com/product-detail/en/united-chemi-con/EKZN6R3ELL332MJ25S/565-4036-ND/4843846; Tolerance: 20%; Voltage: 6.3V; Price: 0.84; Device Package: Radial, Can, 10mm
footprint CAP AL TH D10 L5 H30
pins: 1, 2

## EKZN6R3ELL392MK20S
designator C?, comment 3900uF  (value not drawn)
CAP ALUM 3900UF 20% 6.3V RADIAL; Part Number: EKZN6R3ELL392MK20S; Manufacturer: United Chemi-Con; TemperatureRange: -40C ~ 105C; Type: Polar; Ripple Current: 1.86A @ 120Hz; Impedance: 25 mOhm; Value: 3900uF; PartId: 23014; Supplier 1: Digi-Key; Supplier Part Number 1: 565-4037-ND; ComponentLink1Description: Datasheet; ComponentLink1URL: http://www.chemi-con.co.jp/cgi-bin/CAT_DB/SEARCH/cat_db_al.cgi?e=e&j=p&pdfname=kzn; ComponentLink2Description: Digi-Key Listing; ComponentLink2URL: https://www.digikey.com/product-detail/en/united-chemi-con/EKZN6R3ELL392MK20S/565-4037-ND/4843847; Tolerance: 20%; Voltage: 6.3V; Price: 0; Device Package: Radial, Can, 12.5mm
footprint CAP AL TH D12.5 L5 H21.5
pins: 1, 2

## EKZN100ELL472ML20S
designator C?, comment 4700uF  (value not drawn)
CAP ALUM 4700UF 20% 10V RADIAL; Part Number: EKZN100ELL472ML20S; Manufacturer: United Chemi-Con; TemperatureRange: -40C ~ 105C; Type: Polar; Ripple Current: 2.8305A @ 120Hz; Impedance: 21 mOhm; Value: 4700uF; PartId: 26480; Supplier 1: Digi-Key; Supplier Part Number 1: 565-4045-ND; ComponentLink1Description: Datasheet; ComponentLink1URL: http://www.chemi-con.co.jp/cgi-bin/CAT_DB/SEARCH/cat_db_al.cgi?e=e&j=p&pdfname=kzn; ComponentLink2Description: Digi-Key Listing; ComponentLink2URL: https://www.digikey.com/product-detail/en/united-chemi-con/EKZN100ELL472ML20S/565-4045-ND/4843855; Tolerance: 20%; Voltage: 10V; Price: 1.79; Device Package: Radial, Can, 16mm
footprint CAP AL TH D16 L7.5 H22
pins: 1, 2

## EKZN101ELL121MK16S
designator C?, comment 120uF  (value not drawn)
CAP ALUM 120UF 20% 100V RADIAL; Part Number: EKZN101ELL121MK16S; Manufacturer: United Chemi-Con; TemperatureRange: -40C ~ 105C; Type: Polar; Ripple Current: 572mA @ 120Hz; Impedance: 90 mOhm; Value: 120uF; PartId: 22826; Supplier 1: Digi-Key; Supplier Part Number 1: 565-4138-ND; ComponentLink1Description: Datasheet; ComponentLink1URL: http://www.chemi-con.co.jp/cgi-bin/CAT_DB/SEARCH/cat_db_al.cgi?e=e&j=p&pdfname=kzn; ComponentLink2Description: Digi-Key Listing; ComponentLink2URL: https://www.digikey.com/product-detail/en/united-chemi-con/EKZN101ELL121MK16S/565-4138-ND/4843948; Tolerance: 20%; Voltage: 100V; Price: 0; Device Package: Radial, Can, 12.5mm
footprint CAP AL TH D12.5 L5 H17.5
pins: 1, 2

## EKZN101ELL151MJ25S
designator C?, comment 150uF  (value not drawn)
CAP ALUM 150UF 20% 100V RADIAL; Part Number: EKZN101ELL151MJ25S; Manufacturer: United Chemi-Con; TemperatureRange: -40C ~ 105C; Type: Polar; Ripple Current: 648mA @ 120Hz; Impedance: 55 mOhm; Value: 150uF; PartId: 26114; Supplier 1: Digi-Key; Supplier Part Number 1: 565-4139-ND; ComponentLink1Description: Datasheet; ComponentLink1URL: http://www.chemi-con.co.jp/cgi-bin/CAT_DB/SEARCH/cat_db_al.cgi?e=e&j=p&pdfname=kzn; ComponentLink2Description: Digi-Key Listing; ComponentLink2URL: https://www.digikey.com/product-detail/en/united-chemi-con/EKZN101ELL151MJ25S/565-4139-ND/4843949; Tolerance: 20%; Voltage: 100V; Price: 0.77; Device Package: Radial, Can, 10mm
footprint CAP AL TH D10 L5 H30
pins: 1, 2

## EKZN101ELL181MK20S
designator C?, comment 180uF  (value not drawn)
CAP ALUM 180UF 20% 100V RADIAL; Part Number: EKZN101ELL181MK20S; Manufacturer: United Chemi-Con; TemperatureRange: -40C ~ 105C; Type: Polar; Ripple Current: 700mA @ 120Hz; Impedance: 48 mOhm; Value: 180uF; PartId: 23005; Supplier 1: Digi-Key; Supplier Part Number 1: 565-4140-ND; ComponentLink1Description: Datasheet; ComponentLink1URL: http://www.chemi-con.co.jp/cgi-bin/CAT_DB/SEARCH/cat_db_al.cgi?e=e&j=p&pdfname=kzn; ComponentLink2Description: Digi-Key Listing; ComponentLink2URL: https://www.digikey.com/product-detail/en/united-chemi-con/EKZN101ELL181MK20S/565-4140-ND/4843950; Tolerance: 20%; Voltage: 100V; Price: 0; Device Package: Radial, Can, 12.5mm
footprint CAP AL TH D12.5 L5 H21.5
pins: 1, 2

## EKZN101ELL221MK25S
designator C?, comment 220uF  (value not drawn)
CAP ALUM 220UF 20% 100V RADIAL; Part Number: EKZN101ELL221MK25S; Manufacturer: United Chemi-Con; TemperatureRange: -40C ~ 105C; Type: Polar; Ripple Current: 1.105A @ 120Hz; Impedance: 38 mOhm; Value: 220uF; PartId: 23699; Supplier 1: Digi-Key; Supplier Part Number 1: 565-4141-ND; ComponentLink1Description: Datasheet; ComponentLink1URL: http://www.chemi-con.co.jp/cgi-bin/CAT_DB/SEARCH/cat_db_al.cgi?e=e&j=p&pdfname=kzn; ComponentLink2Description: Digi-Key Listing; ComponentLink2URL: https://www.digikey.com/product-detail/en/united-chemi-con/EKZN101ELL221MK25S/565-4141-ND/4843951; Tolerance: 20%; Voltage: 100V; Price: 1.09; Device Package: Radial, Can, 12.5mm
footprint CAP AL TH D12.5 L5 H26.5
pins: 1, 2

## EKZN101ELL271MK30S
designator C?, comment 270uF  (value not drawn)
CAP ALUM 270UF 20% 100V RADIAL; Part Number: EKZN101ELL271MK30S; Manufacturer: United Chemi-Con; TemperatureRange: -40C ~ 105C; Type: Polar; Ripple Current: 1.2A @ 120Hz; Impedance: 33 mOhm; Value: 270uF; PartId: 24321; Supplier 1: Digi-Key; Supplier Part Number 1: 565-4142-ND; ComponentLink1Description: Datasheet; ComponentLink1URL: http://www.chemi-con.co.jp/cgi-bin/CAT_DB/SEARCH/cat_db_al.cgi?e=e&j=p&pdfname=kzn; ComponentLink2Description: Digi-Key Listing; ComponentLink2URL: https://www.digikey.com/product-detail/en/united-chemi-con/EKZN101ELL271MK30S/565-4142-ND/4843952; Tolerance: 20%; Voltage: 100V; Price: 1.26; Device Package: Radial, Can, 12.5mm
footprint CAP AL TH D12.5 L5 H35.5
pins: 1, 2

## EKZN101ELL271ML20S
designator C?, comment 270uF  (value not drawn)
CAP ALUM 270UF 20% 100V RADIAL; Part Number: EKZN101ELL271ML20S; Manufacturer: United Chemi-Con; TemperatureRange: -40C ~ 105C; Type: Polar; Ripple Current: 975mA @ 120Hz; Impedance: 36 mOhm; Value: 270uF; PartId: 26453; Supplier 1: Digi-Key; Supplier Part Number 1: 565-4143-ND; ComponentLink1Description: Datasheet; ComponentLink1URL: http://www.chemi-con.co.jp/cgi-bin/CAT_DB/SEARCH/cat_db_al.cgi?e=e&j=p&pdfname=kzn; ComponentLink2Description: Digi-Key Listing; ComponentLink2URL: https://www.digikey.com/product-detail/en/united-chemi-con/EKZN101ELL271ML20S/565-4143-ND/4843953; Tolerance: 20%; Voltage: 100V; Price: 1.51; Device Package: Radial, Can, 16mm
footprint CAP AL TH D16 L7.5 H22
pins: 1, 2

## EKZN101ELL391ML25S
designator C?, comment 390uF  (value not drawn)
CAP ALUM 390UF 20% 100V RADIAL; Part Number: EKZN101ELL391ML25S; Manufacturer: United Chemi-Con; TemperatureRange: -40C ~ 105C; Type: Polar; Ripple Current: 1.215A @ 120Hz; Impedance: 28 mOhm; Value: 390uF; PartId: 26690; Supplier 1: Digi-Key; Supplier Part Number 1: 565-4145-ND; ComponentLink1Description: Datasheet; ComponentLink1URL: http://www.chemi-con.co.jp/cgi-bin/CAT_DB/SEARCH/cat_db_al.cgi?e=e&j=p&pdfname=kzn; ComponentLink2Description: Digi-Key Listing; ComponentLink2URL: https://www.digikey.com/product-detail/en/united-chemi-con/EKZN101ELL391ML25S/565-4145-ND/4843955; Tolerance: 20%; Voltage: 100V; Price: 1.84; Device Package: Radial, Can, 16mm
footprint CAP AL TH D16 L7.5 H26.5
pins: 1, 2

## EKZN101ELL471MLN3S
designator C?, comment 470uF  (value not drawn)
CAP ALUM 470UF 20% 100V RADIAL; Part Number: EKZN101ELL471MLN3S; Manufacturer: United Chemi-Con; TemperatureRange: -40C ~ 105C; Type: Polar; Ripple Current: 1.32A @ 120Hz; Impedance: 22 mOhm; Value: 470uF; PartId: 27184; Supplier 1: Digi-Key; Supplier Part Number 1: 565-4147-ND; ComponentLink1Description: Datasheet; ComponentLink1URL: http://www.chemi-con.co.jp/cgi-bin/CAT_DB/SEARCH/cat_db_al.cgi?e=e&j=p&pdfname=kzn; ComponentLink2Description: Digi-Key Listing; ComponentLink2URL: https://www.digikey.com/product-detail/en/united-chemi-con/EKZN101ELL471MLN3S/565-4147-ND/4843957; Tolerance: 20%; Voltage: 100V; Price: 1.97; Device Package: Radial, Can, 16mm
footprint CAP AL TH D16 L7.5 H33.5
pins: 1, 2

## EKZN101ELL561MLP1S
designator C?, comment 560uF  (value not drawn)
CAP ALUM 560UF 20% 100V RADIAL; Part Number: EKZN101ELL561MLP1S; Manufacturer: United Chemi-Con; TemperatureRange: -40C ~ 105C; Type: Polar; Ripple Current: 1.43A @ 120Hz; Impedance: 20 mOhm; Value: 560uF; PartId: 27406; Supplier 1: Digi-Key; Supplier Part Number 1: 565-4148-ND; ComponentLink1Description: Datasheet; ComponentLink1URL: http://www.chemi-con.co.jp/cgi-bin/CAT_DB/SEARCH/cat_db_al.cgi?e=e&j=p&pdfname=kzn; ComponentLink2Description: Digi-Key Listing; ComponentLink2URL: https://www.digikey.com/product-detail/en/united-chemi-con/EKZN101ELL561MLP1S/565-4148-ND/4843958; Tolerance: 20%; Voltage: 100V; Price: 2.21; Device Package: Radial, Can, 16mm
footprint CAP AL TH D16 L7.5 H37
pins: 1, 2

## EKZN101ELL820MJ16S
designator C?, comment 82uF  (value not drawn)
CAP ALUM 82UF 20% 100V RADIAL; Part Number: EKZN101ELL820MJ16S; Manufacturer: United Chemi-Con; TemperatureRange: -40C ~ 105C; Type: Polar; Ripple Current: 416mA @ 120Hz; Impedance: 90 mOhm; Value: 82uF; PartId: 25311; Supplier 1: Digi-Key; Supplier Part Number 1: 565-4136-ND; ComponentLink1Description: Datasheet; ComponentLink1URL: http://www.chemi-con.co.jp/cgi-bin/CAT_DB/SEARCH/cat_db_al.cgi?e=e&j=p&pdfname=kzn; ComponentLink2Description: Digi-Key Listing; ComponentLink2URL: https://www.digikey.com/product-detail/en/united-chemi-con/EKZN101ELL820MJ16S/565-4136-ND/4843946; Tolerance: 20%; Voltage: 100V; Price: 0.65; Device Package: Radial, Can, 10mm
footprint CAP AL TH D10 L5 H17.5
pins: 1, 2

## EKZN160ELL102MJ16S
designator C?, comment 1000uF  (value not drawn)
CAP ALUM 1000UF 20% 16V RADIAL; Part Number: EKZN160ELL102MJ16S; Manufacturer: United Chemi-Con; TemperatureRange: -40C ~ 105C; Type: Polar; Ripple Current: 1.2A @ 120Hz; Impedance: 38 mOhm; Value: 1000uF; PartId: 25323; Supplier 1: Digi-Key; Supplier Part Number 1: 565-4236-ND; ComponentLink1Description: Datasheet; ComponentLink1URL: http://www.chemi-con.co.jp/cgi-bin/CAT_DB/SEARCH/cat_db_al.cgi?e=e&j=p&pdfname=kzn; ComponentLink2Description: Digi-Key Listing; ComponentLink2URL: https://www.digikey.com/product-detail/en/united-chemi-con/EKZN160ELL102MJ16S/565-4236-ND/4847223; Tolerance: 20%; Voltage: 16V; Price: 0.66; Device Package: Radial, Can, 10mm
footprint CAP AL TH D10 L5 H17.5
pins: 1, 2

## EKZN160ELL182MJ25S
designator C?, comment 1800uF  (value not drawn)
CAP ALUM 1800UF 20% 16V RADIAL; Part Number: EKZN160ELL182MJ25S; Manufacturer: United Chemi-Con; TemperatureRange: -40C ~ 105C; Type: Polar; Ripple Current: 1.74A @ 120Hz; Impedance: 26 mOhm; Value: 1800uF; PartId: 26117; Supplier 1: Digi-Key; Supplier Part Number 1: 565-4048-ND; ComponentLink1Description: Datasheet; ComponentLink1URL: http://www.chemi-con.co.jp/cgi-bin/CAT_DB/SEARCH/cat_db_al.cgi?e=e&j=p&pdfname=kzn; ComponentLink2Description: Digi-Key Listing; ComponentLink2URL: https://www.digikey.com/product-detail/en/united-chemi-con/EKZN160ELL182MJ25S/565-4048-ND/4843858; Tolerance: 20%; Voltage: 16V; Price: 0.77; Device Package: Radial, Can, 10mm
footprint CAP AL TH D10 L5 H30
pins: 1, 2